# EAGLE library part ULN2801 (library ElectricNoodleBox)
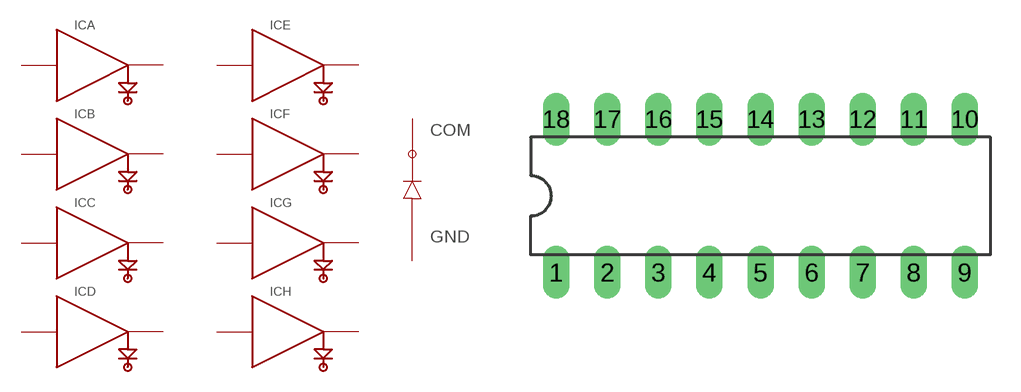
[diagram p14: symbol with the pads of DIL18; footprint DIL18]

Designator prefix IC; gates A=DARLINGTON_ARRAY B=DARLINGTON_ARRAY C=DARLINGTON_ARRAY D=DARLINGTON_ARRAY E=DARLINGTON_ARRAY F=DARLINGTON_ARRAY G=DARLINGTON_ARRAY H=DARLINGTON_ARRAY G$9=DARLINGTON_ARRAY_SUPPLY

## ULN2801  [DIL18]
1  A:IN  in
2  B:IN  in
3  C:IN  in
4  D:IN  in
5  E:IN  in
6  F:IN  in
7  G:IN  in
8  H:IN  in
9  G$9:GND  pwr
10  G$9:COM  pwr
11  H:P$2  out
12  G:P$2  out
13  F:P$2  out
14  E:P$2  out
15  D:P$2  out
16  C:P$2  out
17  B:P$2  out
18  A:P$2  out

## Footprint DIL18 (pad centres in mm)
Dual In Line Package
drill 0.813 long: 1 -10.16,-3.81; 2 -7.62,-3.81; 3 -5.08,-3.81; 4 -2.54,-3.81; 5 0,-3.81; 6 2.54,-3.81; 7 5.08,-3.81; 8 7.62,-3.81; 9 10.16,-3.81; 10 10.16,3.81; 11 7.62,3.81; 12 5.08,3.81; 13 2.54,3.81; 14 0,3.81; 15 -2.54,3.81; 16 -5.08,3.81; 17 -7.62,3.81; 18 -10.16,3.81